# Altium footprint library ESP32DEVKITC_2024-03-25.PcbLib: 1 footprints
Each footprint in its own frame and in the unit in brackets; x right, y up, seen from the top. Pads: shape width x height; smd on the part's side, far side on the other; paste and mask are expansions set on the pad; w line width, h text height; cw(c..) or ccw(c..) is an arc to the next point about the centre after c.
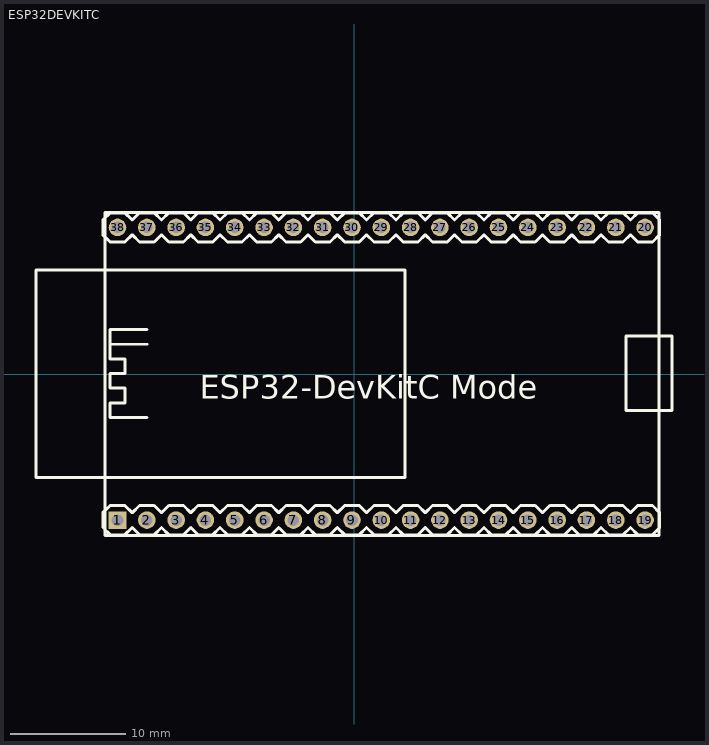
[diagram p0: the footprint, top view; thin cyan lines are the x and y axes]

## ESP32DEVKITC [mil]
pads (38):
  rect 60x60 hole 39.37 paste+0 mask+4: 1(-806.88,-498.42)
  round 60 hole 39.37 paste+0 mask+4: 2(-706.88,-498.42) 3(-606.88,-498.42) 4(-506.88,-498.42) 5(-406.88,-498.42) 6(-306.88,-498.42) 7(-206.88,-498.42) 8(-106.88,-498.42) 9(-6.88,-498.42) 10(93.12,-498.42) 11(193.12,-498.42) 12(293.12,-498.42) 13(393.12,-498.42) 14(493.12,-498.42) 15(593.12,-498.42) 16(693.12,-498.42) 17(793.12,-498.42) 18(893.12,-498.42) 19(993.12,-498.42) 20(993.12,500) 21(893.12,500) 22(793.12,500) 23(693.12,500) 24(593.12,500) 25(493.12,500) 26(393.12,500) 27(293.12,500) 28(193.12,500) 29(93.12,500) 30(-6.88,500) 31(-106.88,500) 32(-206.88,500) 33(-306.88,500) 34(-406.88,500) 35(-506.88,500) 36(-606.88,500) 37(-706.88,500) 38(-806.88,500)
Top Overlay:
  drawing of 256 lines, arcs and shapes, not listed
  text "ESP32-DevKitC Mode" at -526.88,-85 h80